# Altium integrated library TRANSISTOR.IntLib: 21 symbols
Pins are listed as number, name and electrical type; pins without a type are passive.

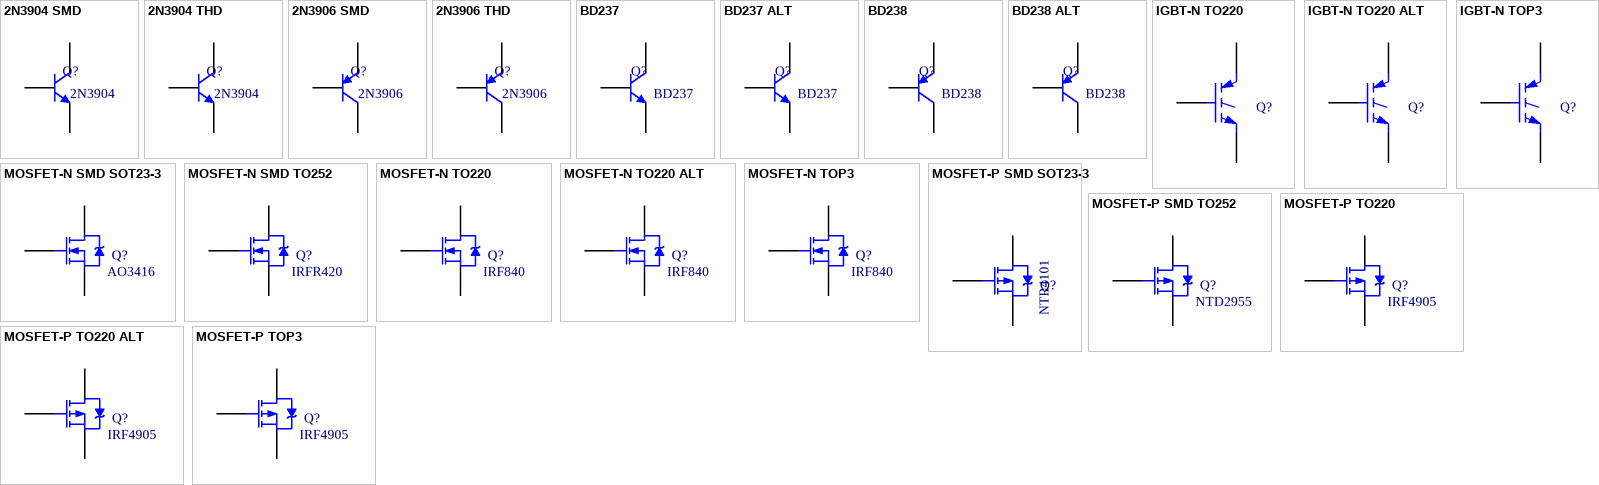
[diagram p0: symbols 2N3904 SMD to MOSFET-P TOP3]

## 2N3904 SMD
designator Q?  value 2N3904
footprint Q_SOT23-3
pins: 1 B, 2 E, 3 C

## 2N3904 THD
designator Q?  value 2N3904
footprint Q_TO92A
footprint Q_TO92B
footprint Q_TO92W
pins: 1 E, 2 B, 3 C

## 2N3906 SMD
designator Q?  value 2N3906
footprint Q_SOT23-3
pins: 1 B, 2 E, 3 C

## 2N3906 THD
designator Q?  value 2N3906
footprint Q_TO92A
footprint Q_TO92B
footprint Q_TO92W
pins: 1 E, 2 B, 3 C

## BD237
designator Q?  Parameter 1: BD237
footprint Q_TO126
pins: 1 E, 2 C, 3 B

## BD237 ALT
designator Q?  Parameter 1: BD237
footprint Q_TO220_ALT
pins: 1 E, 2 C, 3 B

## BD238
designator Q?  Parameter 1: BD238
footprint Q_TO126
pins: 1 E, 2 C, 3 B

## BD238 ALT
designator Q?  Parameter 1: BD238
footprint Q_TO126_ALT
pins: 1 E, 2 C, 3 B

## IGBT-N TO220
designator Q?
Insulated Gate Bipolar Transistor (N-Channel); ComponentLink1Description: Manufacturer Link; ComponentLink1URL: http://www.irf.com/
footprint Q_TO220 (TO, Thru-Hole, Vertical, Heatsink Mounted; 3 In-Line Leads; Pitch 2.54 mm)
pins: 1 G, 2 C, 3 E

## IGBT-N TO220 ALT
designator Q?
Insulated Gate Bipolar Transistor (N-Channel); ComponentLink1Description: Manufacturer Link; ComponentLink1URL: http://www.irf.com/
footprint Q_TO220_ALT
pins: 1 G, 2 C, 3 E

## IGBT-N TOP3
designator Q?
Insulated Gate Bipolar Transistor (N-Channel); ComponentLink1Description: Manufacturer Link; ComponentLink1URL: http://www.irf.com/
footprint Q_TOP3
pins: 1 G, 2 C, 3 E

## MOSFET-N SMD SOT23-3
designator Q?  value AO3416
N-Channel MOSFET
footprint Q_SOT23-3
pins: 1 G, 2 S, 3 D

## MOSFET-N SMD TO252
designator Q?  value IRFR420
N-Channel MOSFET
footprint Q_TO252
pins: 1 G, 3 S, 4 D

## MOSFET-N TO220
designator Q?  value IRF840
N-Channel MOSFET
footprint Q_TO220 (TO, Thru-Hole, Vertical, Heatsink Mounted; 3 In-Line Leads; Pitch 2.54 mm)
pins: 1 G, 2 D, 3 S

## MOSFET-N TO220 ALT
designator Q?  value IRF840
N-Channel MOSFET
footprint Q_TO220_ALT
pins: 1 G, 2 D, 3 S

## MOSFET-N TOP3
designator Q?  value IRF840
N-Channel MOSFET
footprint Q_TOP3
pins: 1 G, 2 D, 3 S

## MOSFET-P SMD SOT23-3
designator Q?  value NTR4101
P-Channel MOSFET
footprint Q_SOT23-3
pins: 1 G, 2 S, 3 D

## MOSFET-P SMD TO252
designator Q?  value NTD2955
P-Channel MOSFET
footprint Q_TO252
pins: 1 G, 3 2, 4 D

## MOSFET-P TO220
designator Q?  value IRF4905
P-Channel MOSFET
footprint Q_TO220 (TO, Thru-Hole, Vertical, Heatsink Mounted; 3 In-Line Leads; Pitch 2.54 mm)
pins: 1 G, 2 D, 3 S

## MOSFET-P TO220 ALT
designator Q?  value IRF4905
P-Channel MOSFET
footprint Q_TO220_ALT
pins: 1 G, 2 D, 3 S

## MOSFET-P TOP3
designator Q?  value IRF4905
P-Channel MOSFET
footprint Q_TOP3
pins: 1 G, 2 D, 3 S